# EAGLE library part 6N137 (library optocoupler_ps)
MOTOROLA OPTO COUPLER
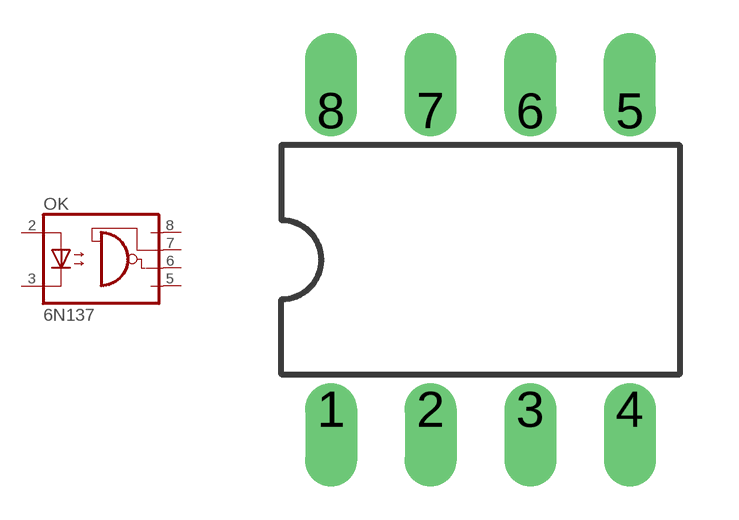
[diagram p10: symbol with the pads of DIL08; footprint DIL08]

Designator prefix OK

## 6N137 (MPN: 6N137; OC_FARNELL: 1328376; OC_NEWARK: 52M1895)  [DIL08]
2  A  pas
3  C  pas
5  GND  pas
6  VO  pas
7  VE  pas
8  VCC  pas

## Footprint DIL08 (pad centres in mm)
Dual In Line Package
drill 0.813 offset: 1 -3.81,-3.81; 2 -1.27,-3.81; 3 1.27,-3.81; 4 3.81,-3.81; 5 3.81,3.81; 6 1.27,3.81; 7 -1.27,3.81; 8 -3.81,3.81